# EAGLE library part DPOT (library rezzonics)
Model P120KGP <http://www.bitechnologies.com/pdfs/p120.pdf> BI Technologies Corporation 12mm Rotary Potentiometer Single/Dual Unit
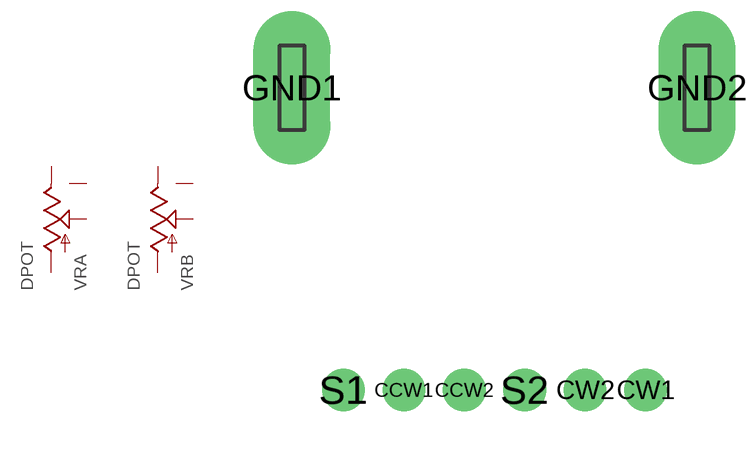
[diagram p23: symbol with the pads of P120KGP; footprint P120KGP]

Designator prefix VR; gates A=POT B=POT

## DPOT  [P120KGP]
CCW1  A:A  pas
CCW2  B:E  pas
CW1  A:E  pas
CW2  B:A  pas
GND1  A:GND  pwr
GND2  B:GND  pwr
S1  A:S  pas
S2  B:S  pas

## Footprint P120KGP (pad centres in mm)
drill 0.9: CCW1 -3,0; CCW2 -1,0; CW1 5,0; CW2 3,0; S1 -5,0; S2 1,0
drill 0.9 pad 2.54 long: GND1 -6.7,10; GND2 6.7,10